# Altium schematic symbol library Altium_XTAL_2PIN.SchLib: 9 symbols
Pins are listed as number, name and electrical type; pins without a type are passive.

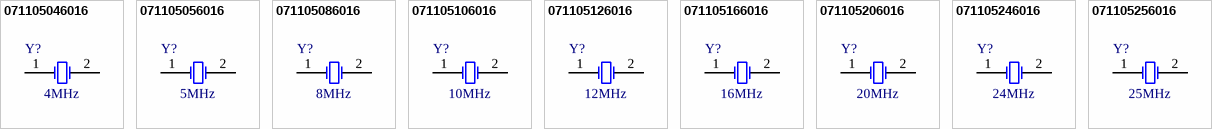
[diagram p0: symbols 071105046016 to 071105256016]

## 071105046016
designator Y?, comment 4MHz
WE-XTAL Quartz Crystal, SMT, HC49/4HSMX, 4MHz, +/-30ppm; Manufacturer Part Number: 830003071; Manufacturer: Wurth Elektronik; Frequency Stability: +/-50ppm; Load Capacitance: 16pF; Supllier 1 Name: Mouser; Supllier 1 SN: 710-830003071; Supllier 2 Name: Digikey; Supllier 2 SN: 732-830003071TR-ND; ComponentLink2Description: Datasheet; ComponentLink2URL: https://katalog.we-online.com/pbs/datasheet/830003071.pdf; Operating Temperature: -10 to +60degC; Size: HC49/4HSMX; Frequency: 4MHz; Frequency Tolerance: +/-30ppm; Mounting Technology: SMT; Supllier 1 URL: https://www.mouser.com/ProductDetail/Wurth-Elektronik/830003071?qs=2WXlatMagcG5ndMVgGcZZA%3D%3D; Supllier 2 URL: https://www.digikey.com/en/products/detail/w%C3%BCrth-elektronik/830003071/13979381; Supplier 3 Name: Thegioiic; Supplier 3 SN: N/A; Supplier 3 URL: https://www.thegioiic.com/thach-anh-4mhz-2-chan-smd-hc49-s
footprint WE-XTAL_HC49/4HSMX
pins: 1 OSC1, 2 OSC2

## 071105056016
designator Y?, comment 5MHz
WE-XTAL Quartz Crystal, SMT, HC49/4HSMX, 5MHz, +/-30ppm; Manufacturer Part Number: 830012312; Manufacturer: Wurth Elektronik; Frequency Stability: +/-50ppm; Load Capacitance: 30pF; Supllier 1 Name: Mouser; Supllier 1 SN: 710-830012312; Supllier 2 Name: Digikey; Supllier 2 SN: 732-830012312TR-ND; ComponentLink2Description: Datasheet; ComponentLink2URL: https://katalog.we-online.com/pbs/datasheet/830012312.pdf; Operating Temperature: -10 to +60degC; Size: HC49/4HSMX; Frequency: 5MHz; Frequency Tolerance: +/-30ppm; Mounting Technology: SMT; Supllier 1 URL: https://www.mouser.com/ProductDetail/Wurth-Elektronik/830012312?qs=2WXlatMagcEjEGDkUOcypQ%3D%3D; Supllier 2 URL: https://www.digikey.com/en/products/detail/w%C3%BCrth-elektronik/830012312/13900399; Supplier 3 Name: Thegioiic; Supplier 3 SN: N/A; Supplier 3 URL: N/A
footprint WE-XTAL_HC49/4HSMX
pins: 1 OSC1, 2 OSC2

## 071105086016
designator Y?, comment 8MHz
WE-XTAL Quartz Crystal, SMT, HC49/4HSMX, 8MHz, +/-30ppm; Manufacturer Part Number: 830003151; Manufacturer: Wurth Elektronik; Frequency Stability: +/-50ppm; Load Capacitance: 16pF; Supllier 1 Name: Mouser; Supllier 1 SN: 710-830003151; Supllier 2 Name: Digikey; Supllier 2 SN: 732-830003151TR-ND; ComponentLink2Description: Datasheet; ComponentLink2URL: https://katalog.we-online.com/pbs/datasheet/830003151.pdf; Operating Temperature: -10 to +60degC; Size: HC49/4HSMX; Frequency: 8MHz; Frequency Tolerance: +/-30ppm; Mounting Technology: SMT; Supllier 1 URL: https://www.mouser.com/ProductDetail/Wurth-Elektronik/830003151?qs=2WXlatMagcHisY7XHApyYg%3D%3D; Supllier 2 URL: https://www.digikey.com/en/products/detail/w%C3%BCrth-elektronik/830003151/13979296; Supplier 3 Name: Thegioiic; Supplier 3 SN: N/A; Supplier 3 URL: https://www.thegioiic.com/thach-anh-8mhz-2-chan-smd-hc49-s
footprint WE-XTAL_HC49/4HSMX
pins: 1 OSC1, 2 OSC2

## 071105106016
designator Y?, comment 10MHz
WE-XTAL Quartz Crystal, SMT, HC49/4HSMX, 10MHz, +/-30ppm; Manufacturer Part Number: 830003166; Manufacturer: Wurth Elektronik; Frequency Stability: +/-50ppm; Load Capacitance: 16pF; Supllier 1 Name: Mouser; Supllier 1 SN: 710-830003166; Supllier 2 Name: Digikey; Supllier 2 SN: 732-830003166TR-ND; ComponentLink2Description: Datasheet; ComponentLink2URL: https://katalog.we-online.com/pbs/datasheet/830003166.pdf; Operating Temperature: -10 to +60degC; Size: HC49/4HSMX; Frequency: 10MHz; Frequency Tolerance: +/-30ppm; Mounting Technology: SMT; Supllier 1 URL: https://www.mouser.com/ProductDetail/Wurth-Elektronik/830003166?qs=2WXlatMagcHFTM4Q3CDoWA%3D%3D; Supllier 2 URL: https://www.digikey.com/en/products/detail/w%C3%BCrth-elektronik/830003166/13900356; Supplier 3 Name: Thegioiic; Supplier 3 SN: N/A; Supplier 3 URL: https://www.thegioiic.com/thach-anh-10mhz-2-chan-smd-hc49-s
footprint WE-XTAL_HC49/4HSMX
pins: 1 OSC1, 2 OSC2

## 071105126016
designator Y?, comment 12MHz
WE-XTAL Quartz Crystal, SMT, HC49/4HSMX, 12MHz, +/-30ppm; Manufacturer Part Number: 830003210; Manufacturer: Wurth Elektronik; Frequency Stability: +/-50ppm; Load Capacitance: 16pF; Supllier 1 Name: Mouser; Supllier 1 SN: 710-830003210; Supllier 2 Name: Digikey; Supllier 2 SN: 732-830003210TR-ND; ComponentLink2Description: Datasheet; ComponentLink2URL: https://katalog.we-online.com/pbs/datasheet/830003210.pdf; Operating Temperature: -10 to +60degC; Size: HC49/4HSMX; Frequency: 12MHz; Frequency Tolerance: +/-30ppm; Mounting Technology: SMT; Supllier 1 URL: https://www.mouser.com/ProductDetail/Wurth-Elektronik/830003210?qs=2WXlatMagcEI70Ai6lh82Q%3D%3D; Supllier 2 URL: https://www.digikey.com/en/products/detail/w%C3%BCrth-elektronik/830003210/13900400; Supplier 3 Name: Thegioiic; Supplier 3 SN: N/A; Supplier 3 URL: https://www.thegioiic.com/thach-anh-12mhz-2-chan-smd-hc49-s
footprint WE-XTAL_HC49/4HSMX
pins: 1 OSC1, 2 OSC2

## 071105166016
designator Y?, comment 16MHz
WE-XTAL Quartz Crystal, SMT, HC49/4HSMX, 16MHz, +/-30ppm; Manufacturer Part Number: 830003237; Manufacturer: Wurth Elektronik; Frequency Stability: +/-50ppm; Load Capacitance: 16pF; Supllier 1 Name: Mouser; Supllier 1 SN: 710-830003237; Supllier 2 Name: Digikey; Supllier 2 SN: 732-830003237TR-ND; ComponentLink2Description: Datasheet; ComponentLink2URL: https://katalog.we-online.com/pbs/datasheet/830003237.pdf; Operating Temperature: -10 to +60degC; Size: HC49/4HSMX; Frequency: 16MHz; Frequency Tolerance: +/-30ppm; Mounting Technology: SMT; Supllier 1 URL: https://www.mouser.com/ProductDetail/Wurth-Elektronik/830003237?qs=2WXlatMagcFy7La1wROd1w%3D%3D; Supllier 2 URL: https://www.digikey.com/en/products/detail/w%C3%BCrth-elektronik/830003237/13979248; Supplier 3 Name: Thegioiic; Supplier 3 SN: N/A; Supplier 3 URL: https://www.thegioiic.com/thach-anh-16mhz-2-chan-smd-hc49-s
footprint WE-XTAL_HC49/4HSMX
pins: 1 OSC1, 2 OSC2

## 071105206016
designator Y?, comment 20MHz
WE-XTAL Quartz Crystal, SMT, HC49/4HSMX, 20MHz, +/-30ppm; Manufacturer Part Number: 830003181; Manufacturer: Wurth Elektronik; Frequency Stability: +/-50ppm; Load Capacitance: 16pF; Supllier 1 Name: Mouser; Supllier 1 SN: 710-830003181; Supllier 2 Name: Digikey; Supllier 2 SN: 732-830003181TR-ND; ComponentLink2Description: Datasheet; ComponentLink2URL: https://katalog.we-online.com/pbs/datasheet/830003181.pdf; Operating Temperature: -10 to +60degC; Size: HC49/4HSMX; Frequency: 20MHz; Frequency Tolerance: +/-30ppm; Mounting Technology: SMT; Supllier 1 URL: https://www.mouser.com/ProductDetail/Wurth-Elektronik/830003181?qs=2WXlatMagcFf1uIMoONFlg%3D%3D; Supllier 2 URL: https://www.digikey.com/en/products/detail/w%C3%BCrth-elektronik/830003181/13979259; Supplier 3 Name: Thegioiic; Supplier 3 SN: N/A; Supplier 3 URL: https://www.thegioiic.com/thach-anh-20mhz-2-chan-smd-hc49-s
footprint WE-XTAL_HC49/4HSMX
pins: 1 OSC1, 2 OSC2

## 071105246016
designator Y?, comment 24MHz
WE-XTAL Quartz Crystal, SMT, HC49/4HSMX, 24MHz, +/-30ppm; Manufacturer Part Number: 830012504; Manufacturer: Wurth Elektronik; Frequency Stability: +/-50ppm; Load Capacitance: 16pF; Supllier 1 Name: Mouser; Supllier 1 SN: 710-830012504; Supllier 2 Name: Digikey; Supllier 2 SN: 732-830012504TR-ND; ComponentLink2Description: Datasheet; ComponentLink2URL: https://katalog.we-online.com/pbs/datasheet/830012504.pdf; Operating Temperature: -10 to +60degC; Size: HC49/4HSMX; Frequency: 24MHz; Frequency Tolerance: +/-30ppm; Mounting Technology: SMT; Supllier 1 URL: https://www.mouser.com/ProductDetail/Wurth-Elektronik/830012504?qs=2WXlatMagcHGDjK9VoFxJA%3D%3D; Supllier 2 URL: https://www.digikey.com/en/products/detail/w%C3%BCrth-elektronik/830012504/13900310; Supplier 3 Name: Thegioiic; Supplier 3 SN: N/A; Supplier 3 URL: https://www.thegioiic.com/thach-anh-24mhz-2-chan-smd-hc49-s
footprint WE-XTAL_HC49/4HSMX
pins: 1 OSC1, 2 OSC2

## 071105256016
designator Y?, comment 25MHz
WE-XTAL Quartz Crystal, SMT, HC49/4HSMX, 25MHz, +/-30ppm; Manufacturer Part Number: 830010595; Manufacturer: Wurth Elektronik; Frequency Stability: +/-50ppm; Load Capacitance: 16pF; Supllier 1 Name: Mouser; Supllier 1 SN: 710-830010595; Supllier 2 Name: Digikey; Supllier 2 SN: 732-830010595TR-ND; ComponentLink2Description: Datasheet; ComponentLink2URL: https://katalog.we-online.com/pbs/datasheet/830010595.pdf; Operating Temperature: -10 to +60degC; Size: HC49/4HSMX; Frequency: 25MHz; Frequency Tolerance: +/-30ppm; Mounting Technology: SMT; Supllier 1 URL: https://www.mouser.com/ProductDetail/Wurth-Elektronik/830010595?qs=2WXlatMagcF3WD%2FXjgfV4g%3D%3D; Supllier 2 URL: https://www.digikey.com/en/products/detail/w%C3%BCrth-elektronik/830010595/13900288; Supplier 3 Name: Thegioiic; Supplier 3 SN: N/A; Supplier 3 URL: https://www.thegioiic.com/thach-anh-25mhz-2-chan-smd-hc49-s
footprint WE-XTAL_HC49/4HSMX
pins: 1 OSC1, 2 OSC2